# EAGLE library part ADAFRUIT-GPS-BREAKOUT (library RocketControlBoard)
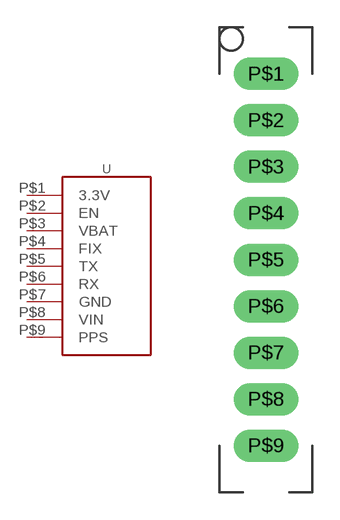
[diagram p12: symbol with the pads of ADAFRUIT-GPS-BREAKOUT; footprint ADAFRUIT-GPS-BREAKOUT]

Designator prefix -

## ADAFRUIT-GPS-BREAKOUT  [ADAFRUIT-GPS-BREAKOUT]
P$1  3.3V
P$2  EN
P$3  VBAT
P$4  FIX
P$5  TX
P$6  RX
P$7  GND
P$8  VIN
P$9  PPS

## Footprint ADAFRUIT-GPS-BREAKOUT (pad centres in mm)
drill 1 pad 1.778 long: P$1 0,10.16; P$2 0,7.62; P$3 0,5.08; P$4 0,2.54; P$5 0,0; P$6 0,-2.54; P$7 0,-5.08; P$8 0,-7.62; P$9 0,-10.16